# EAGLE library part PCB-MB (library elockMB)
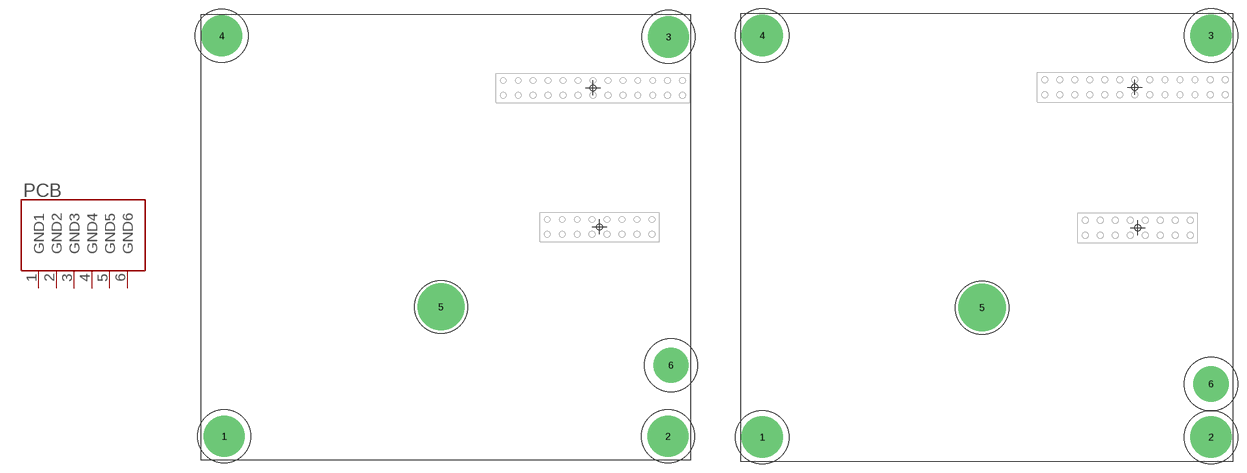
[diagram p0: symbol with the pads of PCB-MB58; footprints PCB-MB58, PCB-MB59]

Designator prefix PCB

## PCB-MB58  [PCB-MB58]
1  GND1
2  GND2
3  GND3
4  GND4
5  GND5
6  GND6

## PCB-MB59  [PCB-MB59]
Pads as for PCB-MB58

## Footprint PCB-MB58 (pad centres in mm)
drill 3.5 pad 7: 1 4,4; 2 79.5,4; 3 79.6,71.9; 4 3.6,72.1
drill 3 pad 8: 5 40.9,26
drill 3 pad 6: 6 80,16.1

## Footprint PCB-MB59 (pad centres in mm)
drill 4.8 pad 7: 1 3.7,4.1; 2 79.6,4.1; 3 79.6,72; 4 3.7,72
drill 3 pad 8: 5 40.9,26
drill 3 pad 6: 6 79.6,13.1